# Altium footprint library Diodes.PcbLib: 27 footprints (part 2 of 2)
Each footprint in its own frame and in the unit in brackets; x right, y up, seen from the top. Pads: shape width x height; smd on the part's side, far side on the other; paste and mask are expansions set on the pad; w line width, h text height; cw(c..) or ccw(c..) is an arc to the next point about the centre after c.
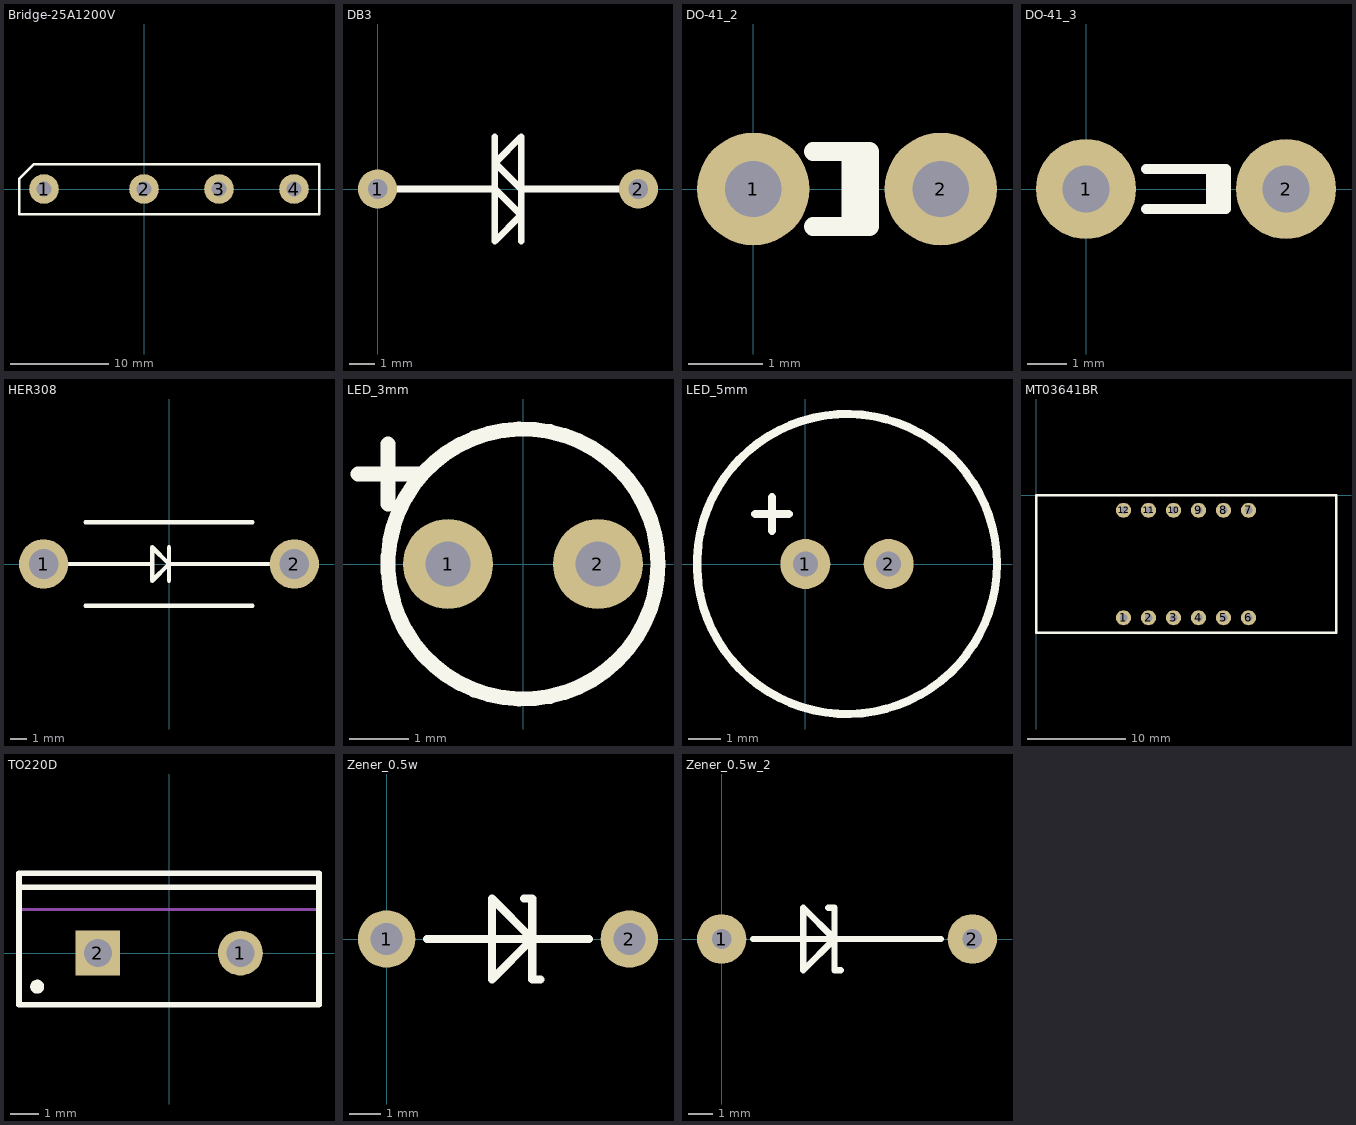
[diagram p1: the footprints below, top view; thin cyan lines are the x and y axes]

## Bridge-25A1200V [mm]
pads (4):
  round 3 hole 1.5: 1(-10.16,0) 2(0,0) 3(7.62,0) 4(15.24,0)
Top Overlay:
  lines w0.254: -12.7,-2.54 17.78,-2.54 17.78,2.54 -11.176,2.54 -12.7,1.016 -12.7,-2.54

## DB3 [mil]
pads (2):
  round 60 hole 30: 1(0,0) 2(400,0)
Top Overlay:
  lines w10: 0,0 180,0 220,-40 180,-80 180,80 ; 220,-80 220,80 180,40 220,0 400,0

## DO-41_2 [mil]
pads (2):
  round 60 hole 30: 1(0,0) 2(100,0)
Top Overlay:
  lines w10: 32,-20 62,-20 62,20 32,20 ; 52,-20 52,20

## DO-41_3 [mm]
pads (2):
  round 2.54 hole 1.2: 1(0,0) 2(5.08,0)
Top Overlay:
  lines w0.254: 1.524,-0.508 3.556,-0.508 3.556,0.508 1.524,0.508 ; 3.175,-0.508 3.175,0.508 ; 3.302,-0.508 3.302,0.508

## HER308 [mm]
pads (2):
  round 3 hole 1.8: 1(-7.62,0) 2(7.62,0)
Top Overlay:
  lines w0.254: -6.604,0 -1.016,0 ; -5.08,-2.54 5.08,-2.54 ; -5.08,2.54 5.08,2.54 ; 0,-1.016 0,1.016 ; 6.604,0 0,0 ; 0,0 -1.016,1.016 -1.016,-1.016 0,0

## LED_3mm [mil]
pads (2):
  round 60 hole 30: 1(-50,0) 2(50,0)
Top Overlay:
  circle w10: c0,0 r90
  lines w10: -110,60 -70,60 ; -90,40 -90,80

## LED_5mm [mil]
pads (2):
  round 60 hole 30: 1(0,0) 2(100,0)
Top Overlay:
  circle w10: c50,0 r180
  lines w10: -60,60 -20,60 ; -40,40 -40,80

## MT03641BR [mil]
pads (12):
  round 60 hole 30: 1(350,-490) 2(450,-490) 3(550,-490) 4(650,-490) 5(750,-490) 6(850,-490) 7(850,-60) 8(750,-60) 9(650,-60) 10(550,-60) 11(450,-60) 12(350,-60)
Top Overlay:
  lines w10: 0,-550 1200,-550 1200,0 0,0 0,-550

## TO220D [mm]
pads (2):
  round 1.6 hole 1: 1(2.54,0)
  rect 1.6x1.6 hole 1: 2(-2.548,0)
Top Overlay:
  circle w0.25: c-4.708,-1.2 r0.125
  lines w0.2: -5.358,2.35 5.342,2.35 ; -5.358,-1.85 5.342,-1.85 5.342,2.85 -5.358,2.85 -5.358,-1.85
Mechanical 13:
  lines w0.1: -5.358,1.55 5.342,1.55 ; -5.358,-1.85 -5.358,2.85 5.342,2.85 5.342,-1.85 -5.358,-1.85
3D body: height 19.3, standoff 12.9, extent -5.357,1.551 5.341,2.849
3D body: height 12.9, standoff 4, extent -5.408,-1.9 5.392,2.9

## Zener_0.5w [mm]
pads (2):
  round 1.8 hole 1: 1(0,0) 2(7.62,0)
Top Overlay:
  lines w0.254: 1.27,0 6.35,0 ; 4.318,1.27 4.572,1.27 4.572,-1.27 4.826,-1.27 ; 3.302,-1.27 4.572,0 3.302,1.27 3.302,-1.27

## Zener_0.5w_2 [mm]
pads (2):
  round 2 hole 0.8: 1(0,0) 2(10.16,0)
Top Overlay:
  lines w0.254: 1.27,0 8.89,0 ; 4.318,1.27 4.572,1.27 4.572,-1.27 4.826,-1.27 ; 3.302,-1.27 3.302,1.27 4.572,0 3.302,-1.27